# Altium footprint library EBoxpcblib.PcbLib: 32 footprints (part 2 of 2)
Each footprint in its own frame and in the unit in brackets; x right, y up, seen from the top. Pads: shape width x height; smd on the part's side, far side on the other; paste and mask are expansions set on the pad; w line width, h text height; cw(c..) or ccw(c..) is an arc to the next point about the centre after c.
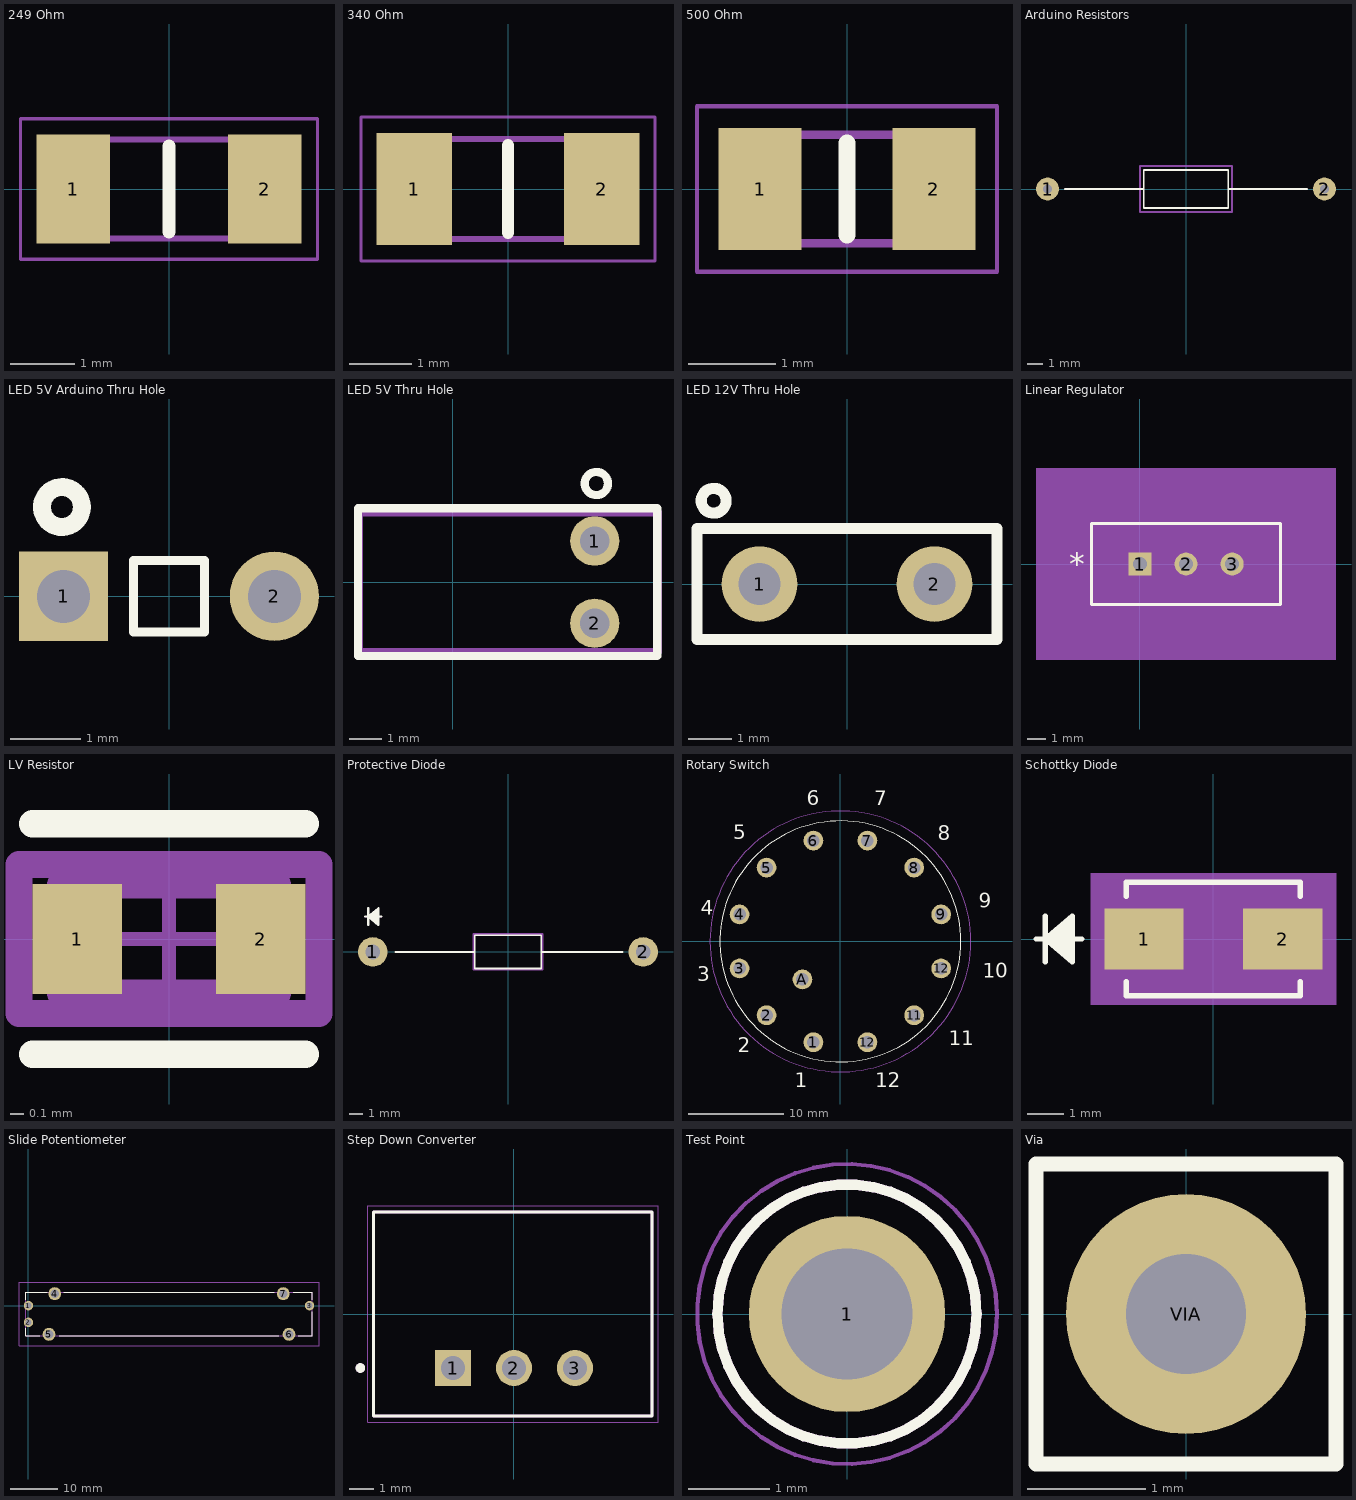
[diagram p1: the footprints below, top view; thin cyan lines are the x and y axes]

## 249 Ohm [mm] "RESC3216X70N"
pads (2):
  rect 1.15x1.7 smd: 1(-1.5,0) 2(1.5,0)
Top Overlay:
  lines w0.2: 0,-0.675 0,0.675
Mechanical 13:
  lines w0.1: -1.6,-0.775 -1.6,0.775 1.6,0.775 1.6,-0.775 -1.6,-0.775
Mechanical 15:
  lines w0.05: -2.325,-1.1 -2.325,1.1 2.325,1.1 2.325,-1.1 -2.325,-1.1
3D body "ERA-8AEB2490V.stp": height 0.7, standoff 0, extent -1.6,-0.775 1.6,0.775

## 340 Ohm [mm] "RESC3216X75N"
pads (2):
  rect 1.2x1.8 smd: 1(-1.5,0) 2(1.5,0)
Top Overlay:
  lines w0.2: 0,-0.7 0,0.7
Mechanical 13:
  lines w0.1: -1.6,-0.8 1.6,-0.8 1.6,0.8 -1.6,0.8 -1.6,-0.8
Mechanical 15:
  lines w0.05: -2.35,-1.15 2.35,-1.15 2.35,1.15 -2.35,1.15 -2.35,-1.15
3D body "CR1206-FX-3400ELF.stp": height 0.75, standoff 0, extent -1.6,-0.8 1.6,0.8

## 500 Ohm [mm] "RESC2012X60N"
pads (2):
  rect 0.95x1.4 smd: 1(-1,0) 2(1,0)
Top Overlay:
  lines w0.2: 0,-0.525 0,0.525
Mechanical 13:
  lines w0.1: -1,-0.625 -1,0.625 1,0.625 1,-0.625 -1,-0.625
Mechanical 15:
  lines w0.05: -1.725,-0.95 -1.725,0.95 1.725,0.95 1.725,-0.95 -1.725,-0.95
3D body "RN732ATTD5000B25.stp": height 0.6, standoff 0, extent -1,-0.625 1,0.625

## Arduino Resistors [mm] "Through-hole"
pads (2):
  round 1.5 hole 0.564: 1(-9,0) 2(9,0)
Top Overlay:
  lines w0.127: -7.874,0 -2.746,0 ; 2.746,0 7.874,0 ; -2.746,-1.246 2.746,-1.246 2.746,1.246 -2.746,1.246 -2.746,-1.246
Mechanical 7:
  lines w0.127: -3,-1.5 3,-1.5 3,1.5 -3,1.5 -3,-1.5

## LED 5V Arduino Thru Hole [mm]
pads (2):
  rect 1.27x1.27 hole 0.754: 1(-1.5,0)
  round 1.27 hole 0.754: 2(1.5,0)
Top Overlay:
  circle w0.254: c-1.524,1.27 r0.284
  lines w0.127: -0.508,-0.508 0.508,-0.508 0.508,0.508 -0.508,0.508 -0.508,-0.508

## LED 5V Thru Hole [mil] "WP934EW/GD5V"
pads (2):
  round 60 hole 35.43: 1(173,50) 2(173,-50)
Top Overlay:
  circle w10: c175,120 r14.14
  lines w10: -115,-90 249.17,-90 249.17,90 -115,90 -115,-90
Mechanical 7:
  lines w10: -114.17,-85 250,-85 250,85 -114.17,85 -114.17,-85

## LED 12V Thru Hole [mm] "609-1112-130F"
pads (2):
  round 1.727 hole 0.965: 1(-2,0) 2(2,0)
Top Overlay:
  circle w0.254: c-3.048,1.905 r0.284
  lines w0.254: -3.429,-1.27 3.429,-1.27 3.429,1.27 -3.429,1.27 -3.429,-1.27

## Linear Regulator [mil] "TO220-3_ONS"
pads (3):
  rect 50x50 hole 30 mask+0: 1(0,0)
  round 50 hole 30 mask+0: 2(100,0) 3(200,0)
Top Overlay:
  lines w6: -105,-87.5 -105,87.5 305,87.5 305,-87.5 -105,-87.5
  text "*" at -152.5,-25 h50
Mechanical 5:
  region: 425,-207.5 -225,-207.5 -225,207.5 425,207.5
Mechanical 13:
  lines w1: -100,-82.5 -100,82.5 300,82.5 300,-82.5 -100,-82.5
  text "*" at -102.5,-25 h50
Mechanical 15:
  region: 310,-92.5 -110,-92.5 -110,92.5 310,92.5
  lines w6: -110,-92.5 310,-92.5 310,92.5 -110,92.5 -110,-92.5
3D body: height 10, standoff 0, extent 0,0 10,10

## LV Resistor [mm] "Yageo_AC0603_IPC_C"
pads (2):
  rect 0.659x0.812 smd paste+0 mask+0: 1(-0.677,0) 2(0.677,0)
Top Overlay:
  lines w0.2: -1.006,-0.85 1.006,-0.85 ; -1.006,0.85 1.006,0.85
Mechanical 10:
  lines w0.2: -1.106,-0.55 -1.106,0.55 1.106,0.55 1.106,-0.55 -1.106,-0.55
  text ".Designator" at 0,0.188 h1
Mechanical 12:
  lines w0.2: -0.8,-0.4 -0.8,0.4 0.8,0.4 0.8,-0.4 -0.8,-0.4
Mechanical 15:
  lines w0.1: -0.5,0 0.5,0 ; 0,-0.5 0,0.5
  lines w0.2: -1.106,-0.55 -1.106,0.55 1.106,0.55 1.106,-0.55 -1.106,-0.55
3D body "Res_Yageo_AC0603DR-0710KL_eec.STEP": height 0.25, standoff 0, extent -1.106,-0.55 1.106,0.55

## Protective Diode [mm] "1N4002-E3/54"
pads (2):
  round 2.228 hole 1.114: 1(-10.2,0) 2(10.2,0)
Top Overlay:
  lines w0.127: -8.509,0 -2.5,0 ; 2.5,0 8.636,0 ; -2.5,-1.25 2.5,-1.25 2.5,1.25 -2.5,1.25 -2.5,-1.25
  lines w0.152: -10.795,2.667 -9.525,2.667 ; -10.541,2.032 -10.541,3.302 ; -9.779,2.159 -10.541,2.667 ; -9.779,2.286 -10.541,2.667 ; -9.779,2.413 -10.541,2.667 ; -9.779,2.54 -10.541,2.667 ; -9.779,2.794 -10.541,2.667 ; -9.779,2.921 -10.541,2.667 ; -9.779,3.048 -10.541,2.667 ; -9.779,3.175 -10.541,2.667 ; -10.541,2.667 -9.779,3.302 -9.779,2.032 -10.541,2.667
Mechanical 7:
  lines w0.127: -2.6,-1.35 2.6,-1.35 2.6,1.35 -2.6,1.35 -2.6,-1.35
Mechanical 13:
  lines w0.025: -10.795,2.667 -9.525,2.667 ; -10.541,2.032 -10.541,3.302 ; -9.779,2.159 -10.541,2.667 ; -9.779,2.286 -10.541,2.667 ; -9.779,2.413 -10.541,2.667 ; -9.779,2.54 -10.541,2.667 ; -9.779,2.794 -10.541,2.667 ; -9.779,2.921 -10.541,2.667 ; -9.779,3.048 -10.541,2.667 ; -9.779,3.175 -10.541,2.667 ; -10.541,2.667 -9.779,3.302 -9.779,2.032 -10.541,2.667

## Rotary Switch [mm] "KC52A30.001NPS"
pads (13):
  round 2.086 hole 1.324: 1(-2.847,-10.625) 2(-7.778,-7.778) 3(-10.625,-2.847) 4(-10.625,2.847) 5(-7.778,7.778) 6(-2.847,10.625) 7(2.847,10.625) 8(7.778,7.778) 9(10.625,2.847) 11(7.778,-7.778) 12(2.847,-10.625) 12(10.625,-2.847) A(-4,-4)
Top Overlay:
  circle w0.127: c0,0 r12.7
  text "12" at 3.683,-15.367 h1.52
  text "11" at 11.43,-10.922 h1.52
  text "10" at 14.986,-3.81 h1.52
  text "9" at 14.605,3.556 h1.52
  text "8" at 10.287,10.668 h1.52
  text "7" at 3.556,14.351 h1.52
  text "6" at -3.556,14.351 h1.52
  text "5" at -11.303,10.795 h1.52
  text "4" at -14.732,2.794 h1.52
  text "3" at -15.113,-4.191 h1.52
  text "2" at -10.795,-11.684 h1.52
  text "1" at -4.826,-15.367 h1.52
Bottom Overlay:
  text "11" at 12.446,-10.922 h1.52
  text "10" at 16.002,-3.81 h1.52
  text "9" at 15.621,3.556 h1.52
  text "8" at 11.303,10.668 h1.52
  text "7" at 4.572,14.351 h1.52
  text "6" at -2.54,14.351 h1.52
  text "5" at -10.287,10.795 h1.52
  text "4" at -13.716,2.794 h1.52
  text "3" at -14.097,-4.191 h1.52
  text "2" at -9.779,-11.684 h1.52
  text "1" at -3.81,-15.367 h1.52
  text "12" at 5.842,-15.24 h1.52
Mechanical 7:
  circle w0.127: c0,0 r13.75

## Schottky Diode [mil] "SMA_STM"
pads (2):
  rect 87x67 smd paste+0 mask+0: 1(-76,0) 2(76,0)
Top Overlay:
  lines w6: -194.5,0 -144.5,0 ; -184.5,-25 -184.5,25 ; -154.5,-20 -184.5,0 ; -154.5,-15 -184.5,0 ; -154.5,-10 -184.5,0 ; -154.5,-5 -184.5,0 ; -154.5,5 -184.5,0 ; -154.5,10 -184.5,0 ; -154.5,15 -184.5,0 ; -154.5,20 -184.5,0 ; -95.5,-46.6 -95.5,-62 95.5,-62 95.5,-46.6 ; -95.5,46.6 -95.5,62 95.5,62 95.5,46.6 ; -184.5,0 -154.5,-25 -154.5,25 -184.5,0
Mechanical 5:
  region: 134.5,-72 -134.5,-72 -134.5,72 134.5,72
Mechanical 13:
  lines w1: -194.5,0 -144.5,0 ; -184.5,-25 -184.5,25 ; -154.5,-20 -184.5,0 ; -154.5,-15 -184.5,0 ; -154.5,-10 -184.5,0 ; -154.5,-5 -184.5,0 ; -154.5,5 -184.5,0 ; -154.5,10 -184.5,0 ; -154.5,15 -184.5,0 ; -154.5,20 -184.5,0 ; -90.5,-28.5 -62,-57 ; -90.5,28.5 -62,57 ; -184.5,0 -154.5,-25 -154.5,25 -184.5,0 ; -105.5,-32.5 -90.5,-32.5 -90.5,32.5 -105.5,32.5 -105.5,-32.5 ; -90.5,-57 -90.5,57 90.5,57 90.5,-57 -90.5,-57 ; 90.5,-32.5 105.5,-32.5 105.5,32.5 90.5,32.5 90.5,-32.5
Mechanical 15:
  region: -100.5,-43.5 -129.5,-43.5 -129.5,43.5 -100.5,43.5 -100.5,67 100.5,67 100.5,43.5 129.5,43.5 129.5,-43.5 100.5,-43.5 100.5,-67 -100.5,-67
  lines w6: -129.5,-43.5 -100.5,-43.5 -100.5,-67 100.5,-67 100.5,-43.5 129.5,-43.5 129.5,43.5 100.5,43.5 100.5,67 -100.5,67 -100.5,43.5 -129.5,43.5 -129.5,-43.5
3D body: height 10, standoff 0, extent 0,0 10,10

## Slide Potentiometer [mm] "PS4510MA1BR500"
pads (7):
  round 1.95 hole 1.3: 1(0,0) 2(0,-3.5) 3(58.8,0)
  round 2.7 hole 1.8: 4(5.5,2.5) 5(4.3,-6) 6(54.5,-6) 7(53.3,2.5)
Top Overlay:
  lines w0.127: -0.6,-4.75 -0.6,-6.25 2.4,-6.25 ; -0.6,1.25 -0.6,2.75 3.9,2.75 ; 6.4,-6.25 52.4,-6.25 ; 7.4,2.75 51.4,2.75 ; 55.4,2.75 59.4,2.75 59.4,1.25 ; 56.4,-6.25 59.4,-6.25 59.4,-1.25
Mechanical 13:
  lines w0.2: -0.6,-6.25 59.4,-6.25 59.4,2.75 -0.6,2.75 -0.6,-6.25
Mechanical 15:
  lines w0.127: -1.975,-8.35 60.775,-8.35 60.775,4.85 -1.975,4.85 -1.975,-8.35
3D body "PS45-10MA1BR500.stp": height 15.1, standoff -5, extent -0.6,-6.798 59.4,3.298

## Step Down Converter [mm] "CONV_R-78E5.0-1.0"
pads (3):
  rect 1.508x1.508 hole 1: 1(-2.54,-2.25)
  round 1.508 hole 1: 2(0,-2.25) 3(2.54,-2.25)
Top Overlay:
  circle w0.2: c-6.4,-2.25 r0.1
  lines w0.127: -5.85,-4.25 5.75,-4.25 5.75,4.25 -5.85,4.25 -5.85,-4.25
Mechanical 13:
  circle w0.2: c-6.4,-2.25 r0.1
  lines w0.127: -5.85,-4.25 5.75,-4.25 5.75,4.25 -5.85,4.25 -5.85,-4.25
Mechanical 15:
  lines w0.05: -6.1,-4.5 6,-4.5 6,4.5 -6.1,4.5 -6.1,-4.5

## Test Point [mm] "TESTPOINT_5013"
pads (1):
  round 2.4 hole 1.6: 1(0,0)
Top Overlay:
  circle w0.127: c0,0 r1.585
Mechanical 13:
  circle w0.127: c0,0 r1.585
Mechanical 15:
  circle w0.05: c0,0 r1.835

## Via [mil]
pads (1):
  round 80 hole 40: VIA(0,0)
Top Overlay:
  lines w5: -50,-50 -50,50 50,50 50,-50 -50,-50